# Altium footprint library RECEPTOR_AIS_R00.PcbLib: 42 footprints (part 1 of 3)
Each footprint in its own frame and in the unit in brackets; x right, y up, seen from the top. Pads: shape width x height; smd on the part's side, far side on the other; paste and mask are expansions set on the pad; w line width, h text height; cw(c..) or ccw(c..) is an arc to the next point about the centre after c.
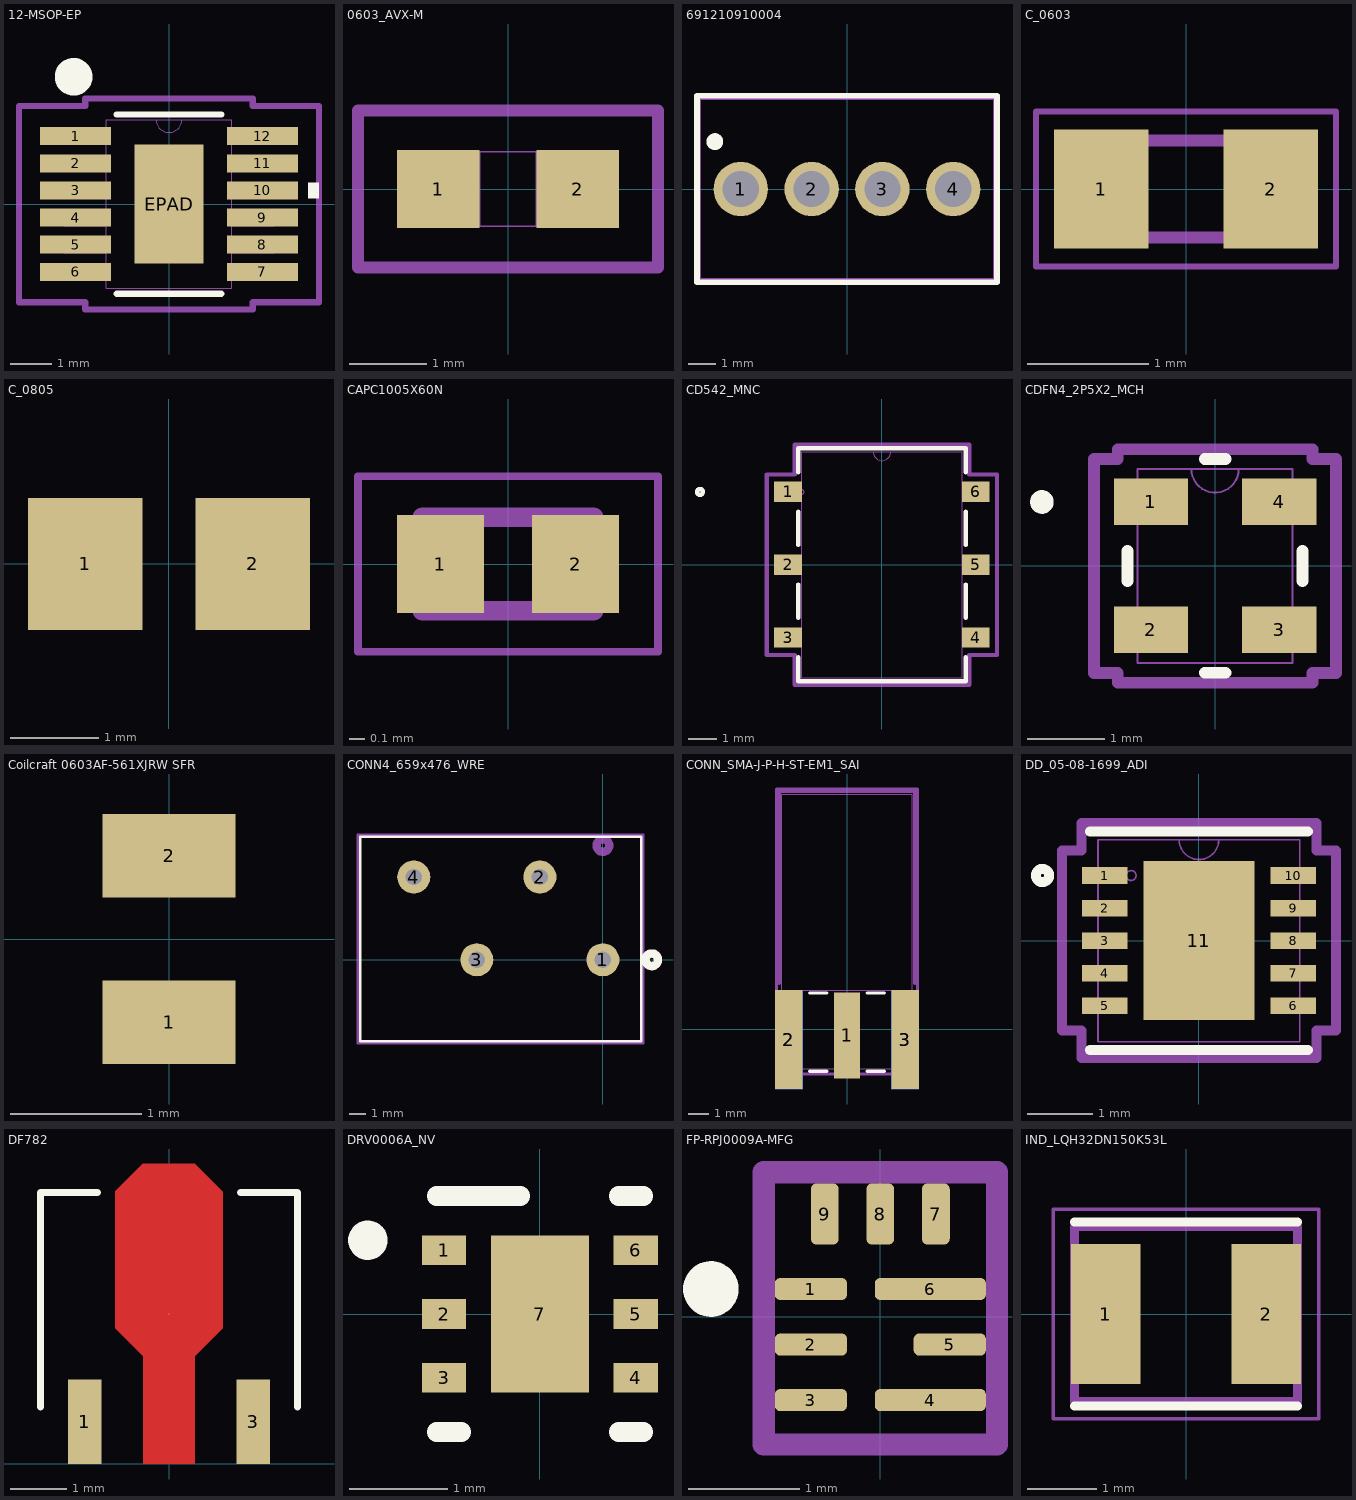
[diagram p0: the footprints below, top view; thin cyan lines are the x and y axes]

## 12-MSOP-EP [mil]
pads (13):
  rect 67x17 smd paste+0 mask+0: 1(-88,63.98) 2(-88,38.39) 3(-88,12.8) 4(-88,-12.8) 5(-88,-38.39) 6(-88,-63.98) 7(88,-63.98) 8(88,-38.39) 9(88,-12.8) 10(88,12.8) 11(88,38.39) 12(88,63.98)
  rect 65x112 smd paste-55.5 mask+0: EPAD(0,0)
Top Overlay:
  circle w19.68: c-90,120 r7.87
  region: 131.5,20.3 141.5,20.3 141.5,5.3 131.5,5.3
  lines w6: -49.3,-84.5 49.3,-84.5 ; -49.3,84.5 49.3,84.5
Top Paste:
  region: 28.56,52.06 -28.56,52.06 -28.56,3.94 28.56,3.94
  region: 28.56,-3.94 -28.56,-3.94 -28.56,-52.06 28.56,-52.06
Top 3D Body (Mech13):
  lines w1: -12,79.5 ccw(c0,79.5) 12,79.5 ; -99.5,-71.48 -99.5,-56.48 -59,-56.48 -59,-71.48 -99.5,-71.48 ; -99.5,-45.89 -99.5,-30.89 -59,-30.89 -59,-45.89 -99.5,-45.89 ; -99.5,-20.3 -99.5,-5.3 -59,-5.3 -59,-20.3 -99.5,-20.3 ; -99.5,5.3 -99.5,20.3 -59,20.3 -59,5.3 -99.5,5.3 ; -99.5,30.89 -99.5,45.89 -59,45.89 -59,30.89 -99.5,30.89 ; -99.5,56.48 -99.5,71.48 -59,71.48 -59,56.48 -99.5,56.48 ; -59,-79.5 59,-79.5 59,79.5 -59,79.5 -59,-79.5 ; 59,-71.48 59,-56.48 99.5,-56.48 99.5,-71.48 59,-71.48 ; 59,-45.89 59,-30.89 99.5,-30.89 99.5,-45.89 59,-45.89 ; 59,-20.3 59,-5.3 99.5,-5.3 99.5,-20.3 59,-20.3 ; 59,5.3 59,20.3 99.5,20.3 99.5,5.3 59,5.3 ; 59,30.89 59,45.89 99.5,45.89 99.5,30.89 59,30.89 ; 59,56.48 59,71.48 99.5,71.48 99.5,56.48 59,56.48
Top Courtyard (Mech15):
  lines w6: -141.5,-92.48 -141.5,92.48 -79,92.48 -79,99.5 79,99.5 79,92.48 141.5,92.48 141.5,-92.48 79,-92.48 79,-99.5 -79,-99.5 -79,-92.48 -141.5,-92.48
3D body "MSE_12_ADI.step": height 67.09, standoff 0, extent -99.49,-79.49 99.49,79.49

## 0603_AVX-M [mil]
pads (2):
  rect 42x40 smd paste+0 mask+0: 1(-35.5,0) 2(35.5,0)
Top 3D Body (Mech13):
  circle w1: c-30.5,0 r3
  lines w1: -34.5,-19 -34.5,19 ; -34.5,-19 34.5,-19 ; -34.5,-19 -14.5,-19 -14.5,19 -34.5,19 ; -34.5,-19 -34.5,19 ; -34.5,19 34.5,19 ; 34.5,-19 34.5,19 ; 34.5,-19 34.5,19 ; 34.5,-19 14.5,-19 14.5,19 34.5,19
Top Courtyard (Mech15):
  lines w6: -76.5,-40 76.5,-40 76.5,40 -76.5,40 -76.5,-40
3D body "0603_AVX.step": height 35, standoff 0, extent -34.49,-19.02 34.49,19.02

## 691210910004 [mm]
pads (4):
  round 1.95 hole 1.3: 1(-3.81,0) 2(-1.27,0) 3(1.27,0) 4(3.81,0)
Top Overlay:
  circle w0.4: c-4.74,1.7 r0.1
  lines w0.2: -5.38,-3.35 5.38,-3.35 5.38,3.35 -5.38,3.35 -5.38,-3.35
Top 3D Body (Mech13):
  lines w0.1: -5.28,-3.25 -5.28,3.25 5.28,3.25 5.28,-3.25 -5.28,-3.25
3D body "Download_STP_691210910004_rev1.stp": height 8.55, standoff -3.45, extent -5.28,-3.25 5.28,3.25

## C_0603 [mm]
pads (2):
  rect 0.78x0.98 smd: 1(-0.7,0) 2(0.7,0)
Top 3D Body (Mech13):
  lines w0.1: -0.8,-0.4 -0.8,0.4 0.8,0.4 0.8,-0.4 -0.8,-0.4
Top Courtyard (Mech15):
  lines w0.05: -1.24,-0.64 -1.24,0.64 1.24,0.64 1.24,-0.64 -1.24,-0.64
3D body "C0603C105K3PACTU..stp": height 0.95, standoff 0, extent -0.8,-0.4 0.8,0.4

## C_0805 [mm] "Chip Capacitor, 2-Leads, Body 2.00x1.25mm"
height 1.1
pads (2):
  rect 1.3x1.5 smd: 1(-0.95,0) 2(0.95,0)
3D body "SW3dPS-0805 SMD Capacitor.STEP": height 0.78, standoff 0, extent -1,-0.625 1,0.625

## CAPC1005X60N [mm]
pads (2):
  rect 0.56x0.63 smd: 1(-0.435,0) 2(0.435,0)
Top 3D Body (Mech13):
  lines w0.127: -0.55,-0.3 -0.55,0.3 0.55,0.3 0.55,-0.3 -0.55,-0.3
Top Courtyard (Mech15):
  lines w0.05: -0.965,-0.565 0.965,-0.565 0.965,0.565 -0.965,0.565 -0.965,-0.565
3D body "step_temp.STEP": height 0.6, standoff 0, extent -0.5,-0.25 0.5,0.25

## CD542_MNC [mil]
pads (6):
  rect 38x28 smd: 1(-129,100) 2(-129,0) 3(-129,-100) 4(129,-100) 5(129,0) 6(129,100)
Top Overlay:
  circle w6: c-250,100 r4
  lines w6: -115,-127.1 -115,-160 115,-160 115,-127.1 ; -115,-72.9 -115,-27.1 ; -115,27.1 -115,72.9 ; -115,127.1 -115,160 115,160 115,127.1 ; 115,-72.9 115,-27.1 ; 115,27.1 115,72.9
Top 3D Body (Mech13):
  circle w1: c-110,100 r3
  lines w1: -12,155 ccw(c0,155) 12,155 ; -110,-155 110,-155 110,155 -110,155 -110,-155
Top Courtyard (Mech15):
  lines w6: -158,-124 -158,124 -120,124 -120,165 120,165 120,124 158,124 158,-124 120,-124 120,-165 -120,-165 -120,-124 -158,-124
3D body "CD542_MNC.step": height 112.09, standoff 0, extent -135.98,-155 135.98,155

## CDFN4_2P5X2_MCH [mm]
pads (4):
  rect 0.955x0.599 smd paste+0 mask+0: 1(-0.827,0.825) 2(-0.827,-0.825) 3(0.827,-0.825) 4(0.827,0.825)
Top Overlay:
  circle w0.152: c-2.231,0.825 r0.076
  lines w0.152: -1.127,-0.193 -1.127,0.193 ; -0.133,-1.377 0.133,-1.377 ; -0.133,1.377 0.133,1.377 ; 1.127,-0.193 1.127,0.193
Top 3D Body (Mech13):
  lines w0.025: -0.305,1.25 ccw(c0,1.25) 0.305,1.25 ; -1,-1.25 1,-1.25 1,1.25 -1,1.25 -1,-1.25
Top Courtyard (Mech15):
  lines w0.152: -1.559,-1.379 -1.559,1.379 -1.254,1.379 -1.254,1.504 1.254,1.504 1.254,1.379 1.559,1.379 1.559,-1.379 1.254,-1.379 1.254,-1.504 -1.254,-1.504 -1.254,-1.379 -1.559,-1.379
3D body "CDFN4_2P5X2_MCH.step": height 0.85, standoff 0, extent -1,-1.25 1,1.25

## Coilcraft 0603AF-561XJRW SFR [mil] "Ferrite Chip Inductor"
pads (2):
  rect 40x25 smd: 1(0,-25) 2(0,25)

## CONN4_659x476_WRE [mm]
pads (4):
  round 2 hole 0.991 paste-2539.97 mask+0: 1(0,0) 2(-3.81,5) 3(-7.62,0) 4(-11.43,5)
Top Overlay:
  circle w0.508: c2.95,0 r0.381
  lines w0.152: 2.3,7.427 -14.65,7.427 -14.65,-4.917 2.306,-4.917 2.306,7.427
Top 3D Body (Mech13):
  circle w0.508: c0,6.905 r0.381
Top Courtyard (Mech15):
  lines w0.152: 2.425,7.554 -14.8,7.554 -14.8,-5.044 2.433,-5.044 2.433,7.554
3D body "Download_STP_691412320004_rev1.stp": height 13.23, standoff -3.57, extent -14.62,-4.75 2.12,7.25

## CONN_SMA-J-P-H-ST-EM1_SAI [mil]
pads (5):
  rect 50x165 smd paste+0 mask+0: 1(0,-11.61)
  rect 53x189 smd paste+0 mask+0: 2(-111.22,-19.49) 3(111.22,-19.49)
  rect 53x189 smd far side paste+0 mask+0: 2(-111.22,-19.49) 3(111.22,-19.49)
Top Overlay:
  lines w6: -71.62,-80 -38.1,-80 ; -71.62,70 -38.1,70 ; 38.1,-80 71.62,-80 ; 38.1,70 71.62,70
Top 3D Body (Mech13):
  lines w1: -125,-75 -125,75 125,75 125,-75 -125,-75 ; -124.5,75 -124.5,450 124.5,450 124.5,75 -124.5,75
  lines w6: -129.5,88.11 -129.5,455 129.5,455 129.5,88.11
Top Courtyard (Mech15):
  lines w6: -135,-85 135,-85 135,460 -135,460 -135,-85
3D body "SMA-J-P-H-ST-EM1--3DModel-STEP-269445.STEP": height 149.76, standoff -100.24, extent -125,-75.2 125,449.61

## DD_05-08-1699_ADI [mm]
pads (11):
  rect 0.7x0.255 smd paste+0 mask+0.076: 1(-1.445,1) 2(-1.445,0.5) 3(-1.445,0) 4(-1.445,-0.5) 5(-1.445,-1) 6(1.445,-1) 7(1.445,-0.5) 8(1.445,0) 9(1.445,0.5) 10(1.445,1)
  rect 1.702x2.438 smd paste+0 mask+0.076: 11(0,0)
Top Overlay:
  circle w0.152: c-2.4,1 r0.102
  lines w0.152: -1.676,-1.676 1.676,-1.676 ; -1.676,1.676 1.676,1.676
Top 3D Body (Mech13):
  circle w0.025: c-1.041,1 r0.076
  lines w0.025: -0.305,1.549 ccw(c0,1.549) 0.305,1.549 ; -1.549,-1.549 -1.549,1.549 1.549,1.549 1.549,-1.549 -1.549,-1.549
Top Courtyard (Mech15):
  lines w0.152: -2.103,-1.381 -2.103,1.381 -1.803,1.381 -1.803,1.803 1.803,1.803 1.803,1.381 2.103,1.381 2.103,-1.381 1.803,-1.381 1.803,-1.803 -1.803,-1.803 -1.803,-1.381 -2.103,-1.381
3D body "DD_05-08-1699_ADI.step": height 0.76, standoff 0, extent -1.549,-1.549 1.549,1.549

## DF782 [mm]
pads (3):
  rect 0.6x1.5 smd: 1(-1.5,0.749) 3(1.5,0.749)
  round 0.025 smd: 2(0,2.667)
Top Layer:
  region: -0.953,2.413 -0.953,4.848 -0.466,5.334 0.457,5.334 0.952,4.839 0.952,2.413 0.457,1.918 0.457,0 -0.457,0 -0.457,1.918
Top Overlay:
  lines w0.127: -2.286,1.016 -2.286,4.826 -1.27,4.826 ; 1.27,4.826 2.286,4.826 2.286,1.016
3D body "DF782_MNC.step": height 1.65, standoff 0, extent -2.299,0.111 2.299,4.81

## DRV0006A_NV [mm]
pads (7):
  rect 0.45x0.3 smd paste+0 mask+0: 1(-0.975,0.65) 2(-0.975,0) 3(-0.975,-0.65) 4(0.975,-0.65) 5(0.975,0) 6(0.975,0.65)
  rect 1x1.6 smd paste-0.5 mask+0: 7(0,0)
Top Overlay:
  circle w0.2: c-1.75,0.75 r0.1
  lines w0.2: -1.05,-1.2 -0.8,-1.2 ; -1.05,1.2 -0.2,1.2 ; 0.8,-1.2 1.05,-1.2 ; 0.8,1.2 1.05,1.2
3D body "DRV0006A.stp": height 0.8, standoff 0, extent -0.992,-1.007 1.008,0.993

## FP-RPJ0009A-MFG [mm]
pads (9):
  rrect50% 0.65x0.2 smd paste+0 mask+0.076: 1(-0.625,0.25) 2(-0.625,-0.25) 3(-0.625,-0.75) 5(0.625,-0.25)
  rrect50% 1x0.2 smd paste+0 mask+0.076: 4(0.45,-0.75) 6(0.45,0.25)
  rrect40% 0.25x0.55 smd paste+0 mask+0.076: 7(0.5,0.925) 8(0,0.925) 9(-0.5,0.925)
Top Overlay:
  circle w0.25: c-1.525,0.25 r0.125
Top Courtyard (Mech15):
  lines w0.2: -1.05,-1.15 -1.05,1.3 1.05,1.3 1.05,-1.15 -1.05,-1.15
3D body "IC_Texas_Instruments_TPS62901RPJR_eec.STEP": height 1, standoff 0, extent -0.75,-1 0.75,1

## IND_LQH32DN150K53L [mm]
pads (2):
  rect 1x2 smd: 1(-1.15,0) 2(1.15,0)
Top Overlay:
  lines w0.127: -1.6,-1.32 1.6,-1.32 ; -1.6,1.32 1.6,1.32
Top 3D Body (Mech13):
  lines w0.127: -1.6,-1.25 -1.6,1.25 1.6,1.25 1.6,-1.25 -1.6,-1.25
Top Courtyard (Mech15):
  lines w0.05: -1.905,-1.5 -1.905,1.5 1.905,1.5 1.905,-1.5 -1.905,-1.5
3D body "LQH32DN150K53L.STEP": height 2.2, standoff 0, extent -1.6,-1.25 1.6,1.25